# Altium schematic symbol library LED.SchLib: 2 symbols
Pins are listed as number, name and electrical type; pins without a type are passive.

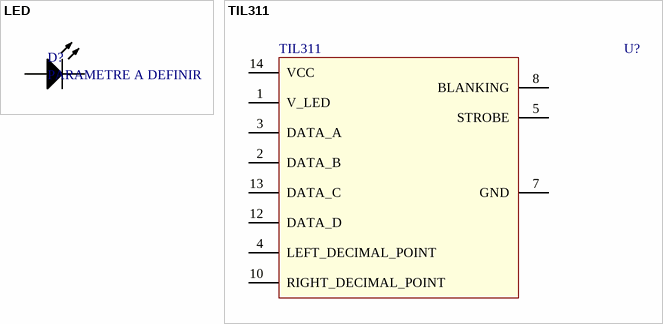
[diagram p0: symbols LED to TIL311]

## LED
designator D?, comment PARAMETRE A DEFINIR
LED generique
footprint LED_3MM
footprint CMS_0805
footprint CMS_1206
pins: 1 A, 2 C

## TIL311
designator U?
Manufacturer Part Number: TIL311
footprint TIL311
pins: 1 V_LED, 2 DATA_B, 3 DATA_A, 4 LEFT_DECIMAL_POINT, 5 STROBE, 7 GND, 8 BLANKING, 10 RIGHT_DECIMAL_POINT, 12 DATA_D, 13 DATA_C, 14 VCC